# EAGLE library part ATSAMD21E15B-AUT (library ATSAMD21E15B-AUT)
ARM Microcontrollers - MCU Cortex-M0+, 32KB FLASH,4KB SRAM - 32TQFP,85C TEMP, GREEN, 3.3V, 48MHZ, T&R Source: Datasheet <https://mouser.componentsearchengine.com/Datasheets/1/ATSAMD21E15B-AUT.pdf>
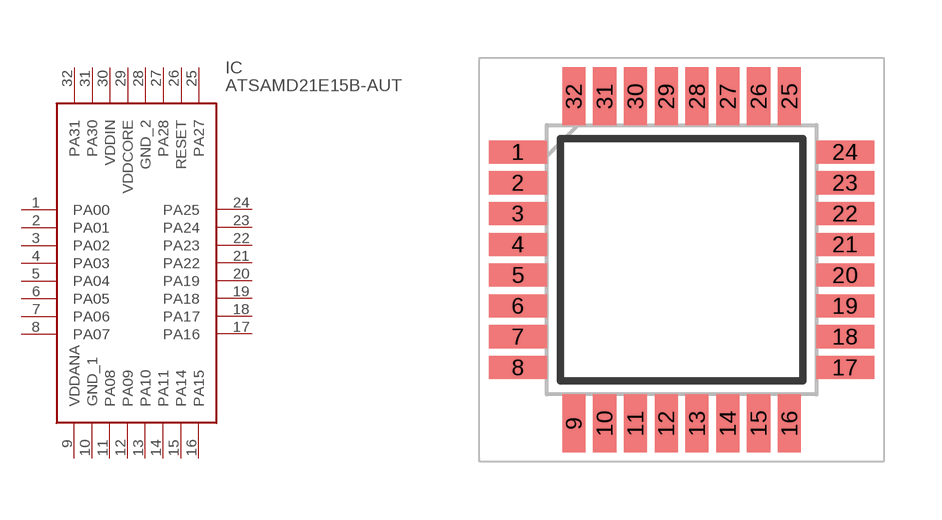
[diagram p0: symbol with the pads of QFP80P900X900X120-32N; footprint QFP80P900X900X120-32N]

Designator prefix IC

## ATSAMD21E15B-AUT (Arrow_Part_Number: ATSAMD21E15B-AUT; Arrow_Price-Stock: https://www.arrow.com/en/products/atsamd21e15b-aut/microchip-technology; Description: ARM Microcontrollers - MCU Cortex-M0+, 32KB FLASH,4KB SRAM - 32TQFP,85C TEMP, GREEN, 3.3V, 48MHZ, T&R; Height: 1.2mm; Manufacturer_Name: Microchip; Manufacturer_Part_Number: ATSAMD21E15B-AUT; Mouser_Part_Number: 556-ATSAMD21E15B-AUT; Mouser_Price-Stock: https://www.mouser.com/Search/Refine.aspx?Keyword=556-ATSAMD21E15B-AUT)  [QFP80P900X900X120-32N]
1  PA00
2  PA01
3  PA02
4  PA03
5  PA04
6  PA05
7  PA06
8  PA07
9  VDDANA  in
10  GND_1  pwr
11  PA08
12  PA09
13  PA10
14  PA11
15  PA14
16  PA15
17  PA16
18  PA17
19  PA18
20  PA19
21  PA22
22  PA23
23  PA24
24  PA25
25  PA27
26  RESET
27  PA28
28  GND_2  pwr
29  VDDCORE
30  VDDIN  pwr
31  PA30
32  PA31

## Footprint QFP80P900X900X120-32N (pad centres in mm)
TQFP 32
smd 1.5 x 0.6: 1 -4.25,2.8; 2 -4.25,2; 3 -4.25,1.2; 4 -4.25,0.4; 5 -4.25,-0.4; 6 -4.25,-1.2; 7 -4.25,-2; 8 -4.25,-2.8; 17 4.25,-2.8; 18 4.25,-2; 19 4.25,-1.2; 20 4.25,-0.4; 21 4.25,0.4; 22 4.25,1.2; 23 4.25,2; 24 4.25,2.8
smd 0.6 x 1.5: 9 -2.8,-4.25; 10 -2,-4.25; 11 -1.2,-4.25; 12 -0.4,-4.25; 13 0.4,-4.25; 14 1.2,-4.25; 15 2,-4.25; 16 2.8,-4.25; 25 2.8,4.25; 26 2,4.25; 27 1.2,4.25; 28 0.4,4.25; 29 -0.4,4.25; 30 -1.2,4.25; 31 -2,4.25; 32 -2.8,4.25